# Altium footprint library Connector_PinSocket_2.54mm.PcbLib: 278 footprints (part 18 of 18)
Each footprint in its own frame and in the unit in brackets; x right, y up, seen from the top. Pads: shape width x height; smd on the part's side, far side on the other; paste and mask are expansions set on the pad; w line width, h text height; cw(c..) or ccw(c..) is an arc to the next point about the centre after c.
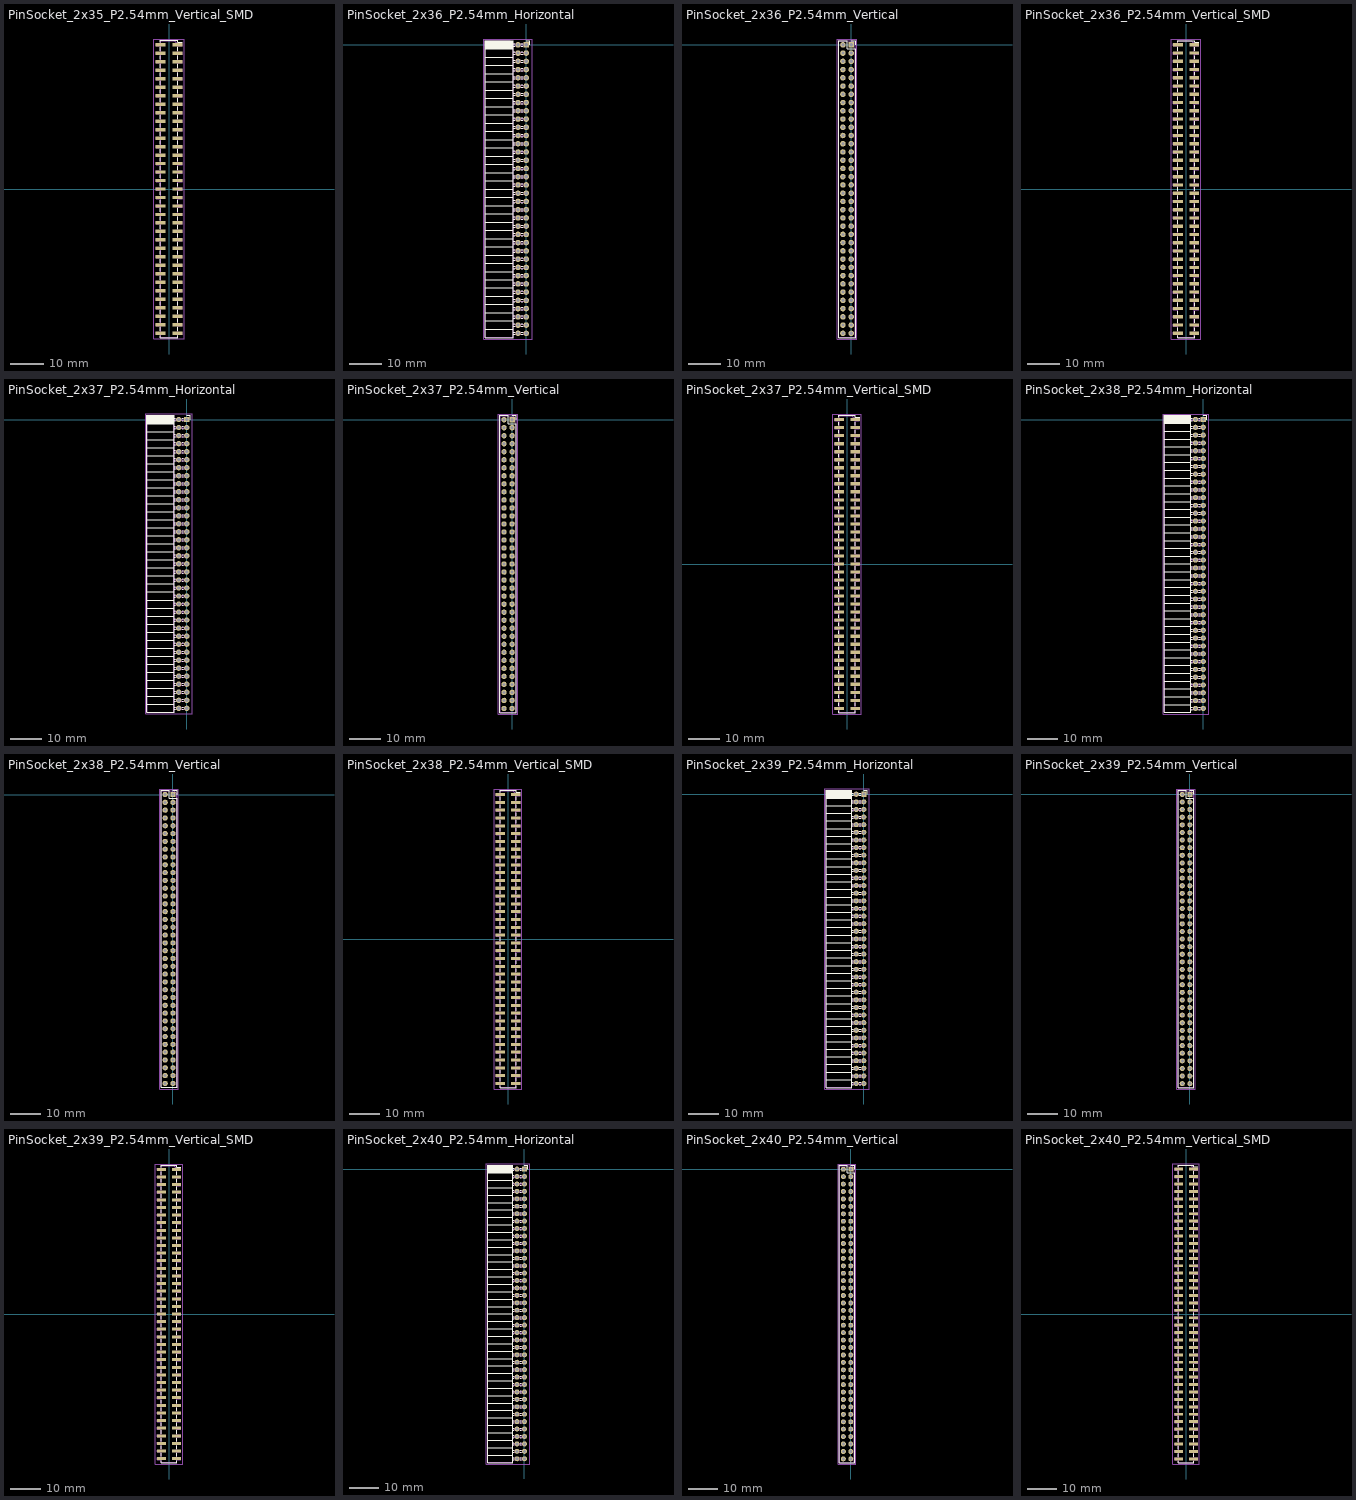
[diagram p17: the footprints below, top view; thin cyan lines are the x and y axes]

## PinSocket_2x35_P2.54mm_Vertical_SMD [mm]
pads (70):
  rect 3x1 smd: 1(2.52,43.18) 2(-2.52,43.18) 3(2.52,40.64) 4(-2.52,40.64) 5(2.52,38.1) 6(-2.52,38.1) 7(2.52,35.56) 8(-2.52,35.56) 9(2.52,33.02) 10(-2.52,33.02) 11(2.52,30.48) 12(-2.52,30.48) 13(2.52,27.94) 14(-2.52,27.94) 15(2.52,25.4) 16(-2.52,25.4) 17(2.52,22.86) 18(-2.52,22.86) 19(2.52,20.32) 20(-2.52,20.32) 21(2.52,17.78) 22(-2.52,17.78) 23(2.52,15.24) 24(-2.52,15.24) 25(2.52,12.7) 26(-2.52,12.7) 27(2.52,10.16) 28(-2.52,10.16) 29(2.52,7.62) 30(-2.52,7.62) 31(2.52,5.08) 32(-2.52,5.08) 33(2.52,2.54) 34(-2.52,2.54) 35(2.52,0) 36(-2.52,0) 37(2.52,-2.54) 38(-2.52,-2.54) 39(2.52,-5.08) 40(-2.52,-5.08) 41(2.52,-7.62) 42(-2.52,-7.62) 43(2.52,-10.16) 44(-2.52,-10.16) 45(2.52,-12.7) 46(-2.52,-12.7) 47(2.52,-15.24) 48(-2.52,-15.24) 49(2.52,-17.78) 50(-2.52,-17.78) 51(2.52,-20.32) 52(-2.52,-20.32) 53(2.52,-22.86) 54(-2.52,-22.86) 55(2.52,-25.4) 56(-2.52,-25.4) 57(2.52,-27.94) 58(-2.52,-27.94) 59(2.52,-30.48) 60(-2.52,-30.48) 61(2.52,-33.02) 62(-2.52,-33.02) 63(2.52,-35.56) 64(-2.52,-35.56) 65(2.52,-38.1) 66(-2.52,-38.1) 67(2.52,-40.64) 68(-2.52,-40.64) 69(2.52,-43.18) 70(-2.52,-43.18)
F.SilkS:
  lines w0.254: -2.6,-43.94 -2.6,-44.51 2.6,-44.51 2.6,-43.94 ; -2.6,-42.42 -2.6,-41.4 ; -2.6,-39.88 -2.6,-38.86 ; -2.6,-37.34 -2.6,-36.32 ; -2.6,-34.8 -2.6,-33.78 ; -2.6,-32.26 -2.6,-31.24 ; -2.6,-29.72 -2.6,-28.7 ; -2.6,-27.18 -2.6,-26.16 ; -2.6,-24.64 -2.6,-23.62 ; -2.6,-22.1 -2.6,-21.08 ; -2.6,-19.56 -2.6,-18.54 ; -2.6,-17.02 -2.6,-16 ; -2.6,-14.48 -2.6,-13.46 ; -2.6,-11.94 -2.6,-10.92 ; -2.6,-9.4 -2.6,-8.38 ; -2.6,-6.86 -2.6,-5.84 ; -2.6,-4.32 -2.6,-3.3 ; -2.6,-1.78 -2.6,-0.76 ; -2.6,0.76 -2.6,1.78 ; -2.6,3.3 -2.6,4.32 ; -2.6,5.84 -2.6,6.86 ; -2.6,8.38 -2.6,9.4 ; -2.6,10.92 -2.6,11.94 ; -2.6,13.46 -2.6,14.48 ; -2.6,16 -2.6,17.02 ; -2.6,18.54 -2.6,19.56 ; -2.6,21.08 -2.6,22.1 ; -2.6,23.62 -2.6,24.64 ; -2.6,26.16 -2.6,27.18 ; -2.6,28.7 -2.6,29.72 ; -2.6,31.24 -2.6,32.26 ; -2.6,33.78 -2.6,34.8 ; -2.6,36.32 -2.6,37.34 ; -2.6,38.86 -2.6,39.88 ; -2.6,41.4 -2.6,42.42 ; -2.6,43.94 -2.6,44.51 2.6,44.51 2.6,43.94 3.96,43.94 ; 2.6,-42.42 2.6,-41.4 ; 2.6,-39.88 2.6,-38.86 ; 2.6,-37.34 2.6,-36.32 ; 2.6,-34.8 2.6,-33.78 ; 2.6,-32.26 2.6,-31.24 ; 2.6,-29.72 2.6,-28.7 ; 2.6,-27.18 2.6,-26.16 ; 2.6,-24.64 2.6,-23.62 ; 2.6,-22.1 2.6,-21.08 ; 2.6,-19.56 2.6,-18.54 ; 2.6,-17.02 2.6,-16 ; 2.6,-14.48 2.6,-13.46 ; 2.6,-11.94 2.6,-10.92 ; 2.6,-9.4 2.6,-8.38 ; 2.6,-6.86 2.6,-5.84 ; 2.6,-4.32 2.6,-3.3 ; 2.6,-1.78 2.6,-0.76 ; 2.6,0.76 2.6,1.78 ; 2.6,3.3 2.6,4.32 ; 2.6,5.84 2.6,6.86 ; 2.6,8.38 2.6,9.4 ; 2.6,10.92 2.6,11.94 ; 2.6,13.46 2.6,14.48 ; 2.6,16 2.6,17.02 ; 2.6,18.54 2.6,19.56 ; 2.6,21.08 2.6,22.1 ; 2.6,23.62 2.6,24.64 ; 2.6,26.16 2.6,27.18 ; 2.6,28.7 2.6,29.72 ; 2.6,31.24 2.6,32.26 ; 2.6,33.78 2.6,34.8 ; 2.6,36.32 2.6,37.34 ; 2.6,38.86 2.6,39.88 ; 2.6,41.4 2.6,42.42
Top Assembly:
  drawing of 215 lines, arcs and shapes, not listed
  text "'.Designator'" at 0.84,-4.047 h1
Top Courtyard:
  lines w0.254: -4.55,-44.95 4.5,-44.95 4.5,44.95 -4.55,44.95 -4.55,-44.95
Top Designator:
  text ".Designator" at -7.643,-0.508 h1.52

## PinSocket_2x36_P2.54mm_Horizontal [mm]
pads (72):
  rect 1.7x1.7 hole 1: 1(0,0)
  round 1.7 hole 1: 2(-2.54,0) 3(0,-2.54) 4(-2.54,-2.54) 5(0,-5.08) 6(-2.54,-5.08) 7(0,-7.62) 8(-2.54,-7.62) 9(0,-10.16) 10(-2.54,-10.16) 11(0,-12.7) 12(-2.54,-12.7) 13(0,-15.24) 14(-2.54,-15.24) 15(0,-17.78) 16(-2.54,-17.78) 17(0,-20.32) 18(-2.54,-20.32) 19(0,-22.86) 20(-2.54,-22.86) 21(0,-25.4) 22(-2.54,-25.4) 23(0,-27.94) 24(-2.54,-27.94) 25(0,-30.48) 26(-2.54,-30.48) 27(0,-33.02) 28(-2.54,-33.02) 29(0,-35.56) 30(-2.54,-35.56) 31(0,-38.1) 32(-2.54,-38.1) 33(0,-40.64) 34(-2.54,-40.64) 35(0,-43.18) 36(-2.54,-43.18) 37(0,-45.72) 38(-2.54,-45.72) 39(0,-48.26) 40(-2.54,-48.26) 41(0,-50.8) 42(-2.54,-50.8) 43(0,-53.34) 44(-2.54,-53.34) 45(0,-55.88) 46(-2.54,-55.88) 47(0,-58.42) 48(-2.54,-58.42) 49(0,-60.96) 50(-2.54,-60.96) 51(0,-63.5) 52(-2.54,-63.5) 53(0,-66.04) 54(-2.54,-66.04) 55(0,-68.58) 56(-2.54,-68.58) 57(0,-71.12) 58(-2.54,-71.12) 59(0,-73.66) 60(-2.54,-73.66) 61(0,-76.2) 62(-2.54,-76.2) 63(0,-78.74) 64(-2.54,-78.74) 65(0,-81.28) 66(-2.54,-81.28) 67(0,-83.82) 68(-2.54,-83.82) 69(0,-86.36) 70(-2.54,-86.36) 71(0,-88.9) 72(-2.54,-88.9)
F.SilkS:
  drawing of 206 lines, arcs and shapes, not listed
Top Assembly:
  lines w0.254: -4.06,-89.2 0,-89.2 0,-88.6 -4.06,-88.6 ; -4.06,-86.66 0,-86.66 0,-86.06 -4.06,-86.06 ; -4.06,-84.12 0,-84.12 0,-83.52 -4.06,-83.52 ; -4.06,-81.58 0,-81.58 0,-80.98 -4.06,-80.98 ; -4.06,-79.04 0,-79.04 0,-78.44 -4.06,-78.44 ; -4.06,-76.5 0,-76.5 0,-75.9 -4.06,-75.9 ; -4.06,-73.96 0,-73.96 0,-73.36 -4.06,-73.36 ; -4.06,-71.42 0,-71.42 0,-70.82 -4.06,-70.82 ; -4.06,-68.88 0,-68.88 0,-68.28 -4.06,-68.28 ; -4.06,-66.34 0,-66.34 0,-65.74 -4.06,-65.74 ; -4.06,-63.8 0,-63.8 0,-63.2 -4.06,-63.2 ; -4.06,-61.26 0,-61.26 0,-60.66 -4.06,-60.66 ; -4.06,-58.72 0,-58.72 0,-58.12 -4.06,-58.12 ; -4.06,-56.18 0,-56.18 0,-55.58 -4.06,-55.58 ; -4.06,-53.64 0,-53.64 0,-53.04 -4.06,-53.04 ; -4.06,-51.1 0,-51.1 0,-50.5 -4.06,-50.5 ; -4.06,-48.56 0,-48.56 0,-47.96 -4.06,-47.96 ; -4.06,-46.02 0,-46.02 0,-45.42 -4.06,-45.42 ; -4.06,-43.48 0,-43.48 0,-42.88 -4.06,-42.88 ; -4.06,-40.94 0,-40.94 0,-40.34 -4.06,-40.34 ; -4.06,-38.4 0,-38.4 0,-37.8 -4.06,-37.8 ; -4.06,-35.86 0,-35.86 0,-35.26 -4.06,-35.26 ; -4.06,-33.32 0,-33.32 0,-32.72 -4.06,-32.72 ; -4.06,-30.78 0,-30.78 0,-30.18 -4.06,-30.18 ; -4.06,-28.24 0,-28.24 0,-27.64 -4.06,-27.64 ; -4.06,-25.7 0,-25.7 0,-25.1 -4.06,-25.1 ; -4.06,-23.16 0,-23.16 0,-22.56 -4.06,-22.56 ; -4.06,-20.62 0,-20.62 0,-20.02 -4.06,-20.02 ; -4.06,-18.08 0,-18.08 0,-17.48 -4.06,-17.48 ; -4.06,-15.54 0,-15.54 0,-14.94 -4.06,-14.94 ; -4.06,-13 0,-13 0,-12.4 -4.06,-12.4 ; -4.06,-10.46 0,-10.46 0,-9.86 -4.06,-9.86 ; -4.06,-7.92 0,-7.92 0,-7.32 -4.06,-7.32 ; -4.06,-5.38 0,-5.38 0,-4.78 -4.06,-4.78 ; -4.06,-2.84 0,-2.84 0,-2.24 -4.06,-2.24 ; -4.06,-0.3 0,-0.3 0,0.3 -4.06,0.3 ; -4.06,0.3 -4.06,-90.17 -12.57,-90.17 -12.57,1.27 -5.03,1.27 -4.06,0.3
  text "'.Designator'" at -7.475,-48.497 h1
Top Courtyard:
  lines w0.254: -13.05,-90.65 1.8,-90.65 1.8,1.8 -13.05,1.8 -13.05,-90.65
Top Designator:
  text ".Designator" at -13.243,-44.933 h1.52

## PinSocket_2x36_P2.54mm_Vertical [mm]
pads (72):
  rect 1.7x1.7 hole 1: 1(0,0)
  round 1.7 hole 1: 2(-2.54,0) 3(0,-2.54) 4(-2.54,-2.54) 5(0,-5.08) 6(-2.54,-5.08) 7(0,-7.62) 8(-2.54,-7.62) 9(0,-10.16) 10(-2.54,-10.16) 11(0,-12.7) 12(-2.54,-12.7) 13(0,-15.24) 14(-2.54,-15.24) 15(0,-17.78) 16(-2.54,-17.78) 17(0,-20.32) 18(-2.54,-20.32) 19(0,-22.86) 20(-2.54,-22.86) 21(0,-25.4) 22(-2.54,-25.4) 23(0,-27.94) 24(-2.54,-27.94) 25(0,-30.48) 26(-2.54,-30.48) 27(0,-33.02) 28(-2.54,-33.02) 29(0,-35.56) 30(-2.54,-35.56) 31(0,-38.1) 32(-2.54,-38.1) 33(0,-40.64) 34(-2.54,-40.64) 35(0,-43.18) 36(-2.54,-43.18) 37(0,-45.72) 38(-2.54,-45.72) 39(0,-48.26) 40(-2.54,-48.26) 41(0,-50.8) 42(-2.54,-50.8) 43(0,-53.34) 44(-2.54,-53.34) 45(0,-55.88) 46(-2.54,-55.88) 47(0,-58.42) 48(-2.54,-58.42) 49(0,-60.96) 50(-2.54,-60.96) 51(0,-63.5) 52(-2.54,-63.5) 53(0,-66.04) 54(-2.54,-66.04) 55(0,-68.58) 56(-2.54,-68.58) 57(0,-71.12) 58(-2.54,-71.12) 59(0,-73.66) 60(-2.54,-73.66) 61(0,-76.2) 62(-2.54,-76.2) 63(0,-78.74) 64(-2.54,-78.74) 65(0,-81.28) 66(-2.54,-81.28) 67(0,-83.82) 68(-2.54,-83.82) 69(0,-86.36) 70(-2.54,-86.36) 71(0,-88.9) 72(-2.54,-88.9)
F.SilkS:
  lines w0.254: 0,1.33 1.33,1.33 1.33,0 ; -3.87,-90.23 1.33,-90.23 1.33,-1.27 -1.27,-1.27 -1.27,1.33 -3.87,1.33 -3.87,-90.23
Top Assembly:
  lines w0.254: -3.81,-90.17 1.27,-90.17 1.27,0.27 0.27,1.27 -3.81,1.27 -3.81,-90.17
  text "'.Designator'" at -0.43,-48.497 h1
Top Courtyard:
  lines w0.254: -4.34,-90.65 1.76,-90.65 1.76,1.8 -4.34,1.8 -4.34,-90.65
Top Designator:
  text ".Designator" at -8.908,-44.933 h1.52

## PinSocket_2x36_P2.54mm_Vertical_SMD [mm]
pads (72):
  rect 3x1 smd: 1(2.52,44.45) 2(-2.52,44.45) 3(2.52,41.91) 4(-2.52,41.91) 5(2.52,39.37) 6(-2.52,39.37) 7(2.52,36.83) 8(-2.52,36.83) 9(2.52,34.29) 10(-2.52,34.29) 11(2.52,31.75) 12(-2.52,31.75) 13(2.52,29.21) 14(-2.52,29.21) 15(2.52,26.67) 16(-2.52,26.67) 17(2.52,24.13) 18(-2.52,24.13) 19(2.52,21.59) 20(-2.52,21.59) 21(2.52,19.05) 22(-2.52,19.05) 23(2.52,16.51) 24(-2.52,16.51) 25(2.52,13.97) 26(-2.52,13.97) 27(2.52,11.43) 28(-2.52,11.43) 29(2.52,8.89) 30(-2.52,8.89) 31(2.52,6.35) 32(-2.52,6.35) 33(2.52,3.81) 34(-2.52,3.81) 35(2.52,1.27) 36(-2.52,1.27) 37(2.52,-1.27) 38(-2.52,-1.27) 39(2.52,-3.81) 40(-2.52,-3.81) 41(2.52,-6.35) 42(-2.52,-6.35) 43(2.52,-8.89) 44(-2.52,-8.89) 45(2.52,-11.43) 46(-2.52,-11.43) 47(2.52,-13.97) 48(-2.52,-13.97) 49(2.52,-16.51) 50(-2.52,-16.51) 51(2.52,-19.05) 52(-2.52,-19.05) 53(2.52,-21.59) 54(-2.52,-21.59) 55(2.52,-24.13) 56(-2.52,-24.13) 57(2.52,-26.67) 58(-2.52,-26.67) 59(2.52,-29.21) 60(-2.52,-29.21) 61(2.52,-31.75) 62(-2.52,-31.75) 63(2.52,-34.29) 64(-2.52,-34.29) 65(2.52,-36.83) 66(-2.52,-36.83) 67(2.52,-39.37) 68(-2.52,-39.37) 69(2.52,-41.91) 70(-2.52,-41.91) 71(2.52,-44.45) 72(-2.52,-44.45)
F.SilkS:
  lines w0.254: -2.6,-45.21 -2.6,-45.78 2.6,-45.78 2.6,-45.21 ; -2.6,-43.69 -2.6,-42.67 ; -2.6,-41.15 -2.6,-40.13 ; -2.6,-38.61 -2.6,-37.59 ; -2.6,-36.07 -2.6,-35.05 ; -2.6,-33.53 -2.6,-32.51 ; -2.6,-30.99 -2.6,-29.97 ; -2.6,-28.45 -2.6,-27.43 ; -2.6,-25.91 -2.6,-24.89 ; -2.6,-23.37 -2.6,-22.35 ; -2.6,-20.83 -2.6,-19.81 ; -2.6,-18.29 -2.6,-17.27 ; -2.6,-15.75 -2.6,-14.73 ; -2.6,-13.21 -2.6,-12.19 ; -2.6,-10.67 -2.6,-9.65 ; -2.6,-8.13 -2.6,-7.11 ; -2.6,-5.59 -2.6,-4.57 ; -2.6,-3.05 -2.6,-2.03 ; -2.6,-0.51 -2.6,0.51 ; -2.6,2.03 -2.6,3.05 ; -2.6,4.57 -2.6,5.59 ; -2.6,7.11 -2.6,8.13 ; -2.6,9.65 -2.6,10.67 ; -2.6,12.19 -2.6,13.21 ; -2.6,14.73 -2.6,15.75 ; -2.6,17.27 -2.6,18.29 ; -2.6,19.81 -2.6,20.83 ; -2.6,22.35 -2.6,23.37 ; -2.6,24.89 -2.6,25.91 ; -2.6,27.43 -2.6,28.45 ; -2.6,29.97 -2.6,30.99 ; -2.6,32.51 -2.6,33.53 ; -2.6,35.05 -2.6,36.07 ; -2.6,37.59 -2.6,38.61 ; -2.6,40.13 -2.6,41.15 ; -2.6,42.67 -2.6,43.69 ; -2.6,45.21 -2.6,45.78 2.6,45.78 2.6,45.21 3.96,45.21 ; 2.6,-43.69 2.6,-42.67 ; 2.6,-41.15 2.6,-40.13 ; 2.6,-38.61 2.6,-37.59 ; 2.6,-36.07 2.6,-35.05 ; 2.6,-33.53 2.6,-32.51 ; 2.6,-30.99 2.6,-29.97 ; 2.6,-28.45 2.6,-27.43 ; 2.6,-25.91 2.6,-24.89 ; 2.6,-23.37 2.6,-22.35 ; 2.6,-20.83 2.6,-19.81 ; 2.6,-18.29 2.6,-17.27 ; 2.6,-15.75 2.6,-14.73 ; 2.6,-13.21 2.6,-12.19 ; 2.6,-10.67 2.6,-9.65 ; 2.6,-8.13 2.6,-7.11 ; 2.6,-5.59 2.6,-4.57 ; 2.6,-3.05 2.6,-2.03 ; 2.6,-0.51 2.6,0.51 ; 2.6,2.03 2.6,3.05 ; 2.6,4.57 2.6,5.59 ; 2.6,7.11 2.6,8.13 ; 2.6,9.65 2.6,10.67 ; 2.6,12.19 2.6,13.21 ; 2.6,14.73 2.6,15.75 ; 2.6,17.27 2.6,18.29 ; 2.6,19.81 2.6,20.83 ; 2.6,22.35 2.6,23.37 ; 2.6,24.89 2.6,25.91 ; 2.6,27.43 2.6,28.45 ; 2.6,29.97 2.6,30.99 ; 2.6,32.51 2.6,33.53 ; 2.6,35.05 2.6,36.07 ; 2.6,37.59 2.6,38.61 ; 2.6,40.13 2.6,41.15 ; 2.6,42.67 2.6,43.69
Top Assembly:
  drawing of 221 lines, arcs and shapes, not listed
  text "'.Designator'" at 0.84,-4.047 h1
Top Courtyard:
  lines w0.254: -4.55,-46.2 4.5,-46.2 4.5,46.25 -4.55,46.25 -4.55,-46.2
Top Designator:
  text ".Designator" at -7.643,-0.483 h1.52

## PinSocket_2x37_P2.54mm_Horizontal [mm]
pads (74):
  rect 1.7x1.7 hole 1: 1(0,0)
  round 1.7 hole 1: 2(-2.54,0) 3(0,-2.54) 4(-2.54,-2.54) 5(0,-5.08) 6(-2.54,-5.08) 7(0,-7.62) 8(-2.54,-7.62) 9(0,-10.16) 10(-2.54,-10.16) 11(0,-12.7) 12(-2.54,-12.7) 13(0,-15.24) 14(-2.54,-15.24) 15(0,-17.78) 16(-2.54,-17.78) 17(0,-20.32) 18(-2.54,-20.32) 19(0,-22.86) 20(-2.54,-22.86) 21(0,-25.4) 22(-2.54,-25.4) 23(0,-27.94) 24(-2.54,-27.94) 25(0,-30.48) 26(-2.54,-30.48) 27(0,-33.02) 28(-2.54,-33.02) 29(0,-35.56) 30(-2.54,-35.56) 31(0,-38.1) 32(-2.54,-38.1) 33(0,-40.64) 34(-2.54,-40.64) 35(0,-43.18) 36(-2.54,-43.18) 37(0,-45.72) 38(-2.54,-45.72) 39(0,-48.26) 40(-2.54,-48.26) 41(0,-50.8) 42(-2.54,-50.8) 43(0,-53.34) 44(-2.54,-53.34) 45(0,-55.88) 46(-2.54,-55.88) 47(0,-58.42) 48(-2.54,-58.42) 49(0,-60.96) 50(-2.54,-60.96) 51(0,-63.5) 52(-2.54,-63.5) 53(0,-66.04) 54(-2.54,-66.04) 55(0,-68.58) 56(-2.54,-68.58) 57(0,-71.12) 58(-2.54,-71.12) 59(0,-73.66) 60(-2.54,-73.66) 61(0,-76.2) 62(-2.54,-76.2) 63(0,-78.74) 64(-2.54,-78.74) 65(0,-81.28) 66(-2.54,-81.28) 67(0,-83.82) 68(-2.54,-83.82) 69(0,-86.36) 70(-2.54,-86.36) 71(0,-88.9) 72(-2.54,-88.9) 73(0,-91.44) 74(-2.54,-91.44)
F.SilkS:
  drawing of 211 lines, arcs and shapes, not listed
Top Assembly:
  lines w0.254: -4.06,-91.74 0,-91.74 0,-91.14 -4.06,-91.14 ; -4.06,-89.2 0,-89.2 0,-88.6 -4.06,-88.6 ; -4.06,-86.66 0,-86.66 0,-86.06 -4.06,-86.06 ; -4.06,-84.12 0,-84.12 0,-83.52 -4.06,-83.52 ; -4.06,-81.58 0,-81.58 0,-80.98 -4.06,-80.98 ; -4.06,-79.04 0,-79.04 0,-78.44 -4.06,-78.44 ; -4.06,-76.5 0,-76.5 0,-75.9 -4.06,-75.9 ; -4.06,-73.96 0,-73.96 0,-73.36 -4.06,-73.36 ; -4.06,-71.42 0,-71.42 0,-70.82 -4.06,-70.82 ; -4.06,-68.88 0,-68.88 0,-68.28 -4.06,-68.28 ; -4.06,-66.34 0,-66.34 0,-65.74 -4.06,-65.74 ; -4.06,-63.8 0,-63.8 0,-63.2 -4.06,-63.2 ; -4.06,-61.26 0,-61.26 0,-60.66 -4.06,-60.66 ; -4.06,-58.72 0,-58.72 0,-58.12 -4.06,-58.12 ; -4.06,-56.18 0,-56.18 0,-55.58 -4.06,-55.58 ; -4.06,-53.64 0,-53.64 0,-53.04 -4.06,-53.04 ; -4.06,-51.1 0,-51.1 0,-50.5 -4.06,-50.5 ; -4.06,-48.56 0,-48.56 0,-47.96 -4.06,-47.96 ; -4.06,-46.02 0,-46.02 0,-45.42 -4.06,-45.42 ; -4.06,-43.48 0,-43.48 0,-42.88 -4.06,-42.88 ; -4.06,-40.94 0,-40.94 0,-40.34 -4.06,-40.34 ; -4.06,-38.4 0,-38.4 0,-37.8 -4.06,-37.8 ; -4.06,-35.86 0,-35.86 0,-35.26 -4.06,-35.26 ; -4.06,-33.32 0,-33.32 0,-32.72 -4.06,-32.72 ; -4.06,-30.78 0,-30.78 0,-30.18 -4.06,-30.18 ; -4.06,-28.24 0,-28.24 0,-27.64 -4.06,-27.64 ; -4.06,-25.7 0,-25.7 0,-25.1 -4.06,-25.1 ; -4.06,-23.16 0,-23.16 0,-22.56 -4.06,-22.56 ; -4.06,-20.62 0,-20.62 0,-20.02 -4.06,-20.02 ; -4.06,-18.08 0,-18.08 0,-17.48 -4.06,-17.48 ; -4.06,-15.54 0,-15.54 0,-14.94 -4.06,-14.94 ; -4.06,-13 0,-13 0,-12.4 -4.06,-12.4 ; -4.06,-10.46 0,-10.46 0,-9.86 -4.06,-9.86 ; -4.06,-7.92 0,-7.92 0,-7.32 -4.06,-7.32 ; -4.06,-5.38 0,-5.38 0,-4.78 -4.06,-4.78 ; -4.06,-2.84 0,-2.84 0,-2.24 -4.06,-2.24 ; -4.06,-0.3 0,-0.3 0,0.3 -4.06,0.3 ; -4.06,0.3 -4.06,-92.71 -12.57,-92.71 -12.57,1.27 -5.03,1.27 -4.06,0.3
  text "'.Designator'" at -7.475,-49.767 h1
Top Courtyard:
  lines w0.254: -13.05,-93.25 1.8,-93.25 1.8,1.75 -13.05,1.75 -13.05,-93.25
Top Designator:
  text ".Designator" at -13.243,-46.258 h1.52

## PinSocket_2x37_P2.54mm_Vertical [mm]
pads (74):
  rect 1.7x1.7 hole 1: 1(0,0)
  round 1.7 hole 1: 2(-2.54,0) 3(0,-2.54) 4(-2.54,-2.54) 5(0,-5.08) 6(-2.54,-5.08) 7(0,-7.62) 8(-2.54,-7.62) 9(0,-10.16) 10(-2.54,-10.16) 11(0,-12.7) 12(-2.54,-12.7) 13(0,-15.24) 14(-2.54,-15.24) 15(0,-17.78) 16(-2.54,-17.78) 17(0,-20.32) 18(-2.54,-20.32) 19(0,-22.86) 20(-2.54,-22.86) 21(0,-25.4) 22(-2.54,-25.4) 23(0,-27.94) 24(-2.54,-27.94) 25(0,-30.48) 26(-2.54,-30.48) 27(0,-33.02) 28(-2.54,-33.02) 29(0,-35.56) 30(-2.54,-35.56) 31(0,-38.1) 32(-2.54,-38.1) 33(0,-40.64) 34(-2.54,-40.64) 35(0,-43.18) 36(-2.54,-43.18) 37(0,-45.72) 38(-2.54,-45.72) 39(0,-48.26) 40(-2.54,-48.26) 41(0,-50.8) 42(-2.54,-50.8) 43(0,-53.34) 44(-2.54,-53.34) 45(0,-55.88) 46(-2.54,-55.88) 47(0,-58.42) 48(-2.54,-58.42) 49(0,-60.96) 50(-2.54,-60.96) 51(0,-63.5) 52(-2.54,-63.5) 53(0,-66.04) 54(-2.54,-66.04) 55(0,-68.58) 56(-2.54,-68.58) 57(0,-71.12) 58(-2.54,-71.12) 59(0,-73.66) 60(-2.54,-73.66) 61(0,-76.2) 62(-2.54,-76.2) 63(0,-78.74) 64(-2.54,-78.74) 65(0,-81.28) 66(-2.54,-81.28) 67(0,-83.82) 68(-2.54,-83.82) 69(0,-86.36) 70(-2.54,-86.36) 71(0,-88.9) 72(-2.54,-88.9) 73(0,-91.44) 74(-2.54,-91.44)
F.SilkS:
  lines w0.254: 0,1.33 1.33,1.33 1.33,0 ; -3.87,-92.77 1.33,-92.77 1.33,-1.27 -1.27,-1.27 -1.27,1.33 -3.87,1.33 -3.87,-92.77
Top Assembly:
  lines w0.254: -3.81,-92.71 1.27,-92.71 1.27,0.27 0.27,1.27 -3.81,1.27 -3.81,-92.71
  text "'.Designator'" at -0.43,-49.767 h1
Top Courtyard:
  lines w0.254: -4.34,-93.2 1.76,-93.2 1.76,1.8 -4.34,1.8 -4.34,-93.2
Top Designator:
  text ".Designator" at -8.908,-46.208 h1.52

## PinSocket_2x37_P2.54mm_Vertical_SMD [mm]
pads (74):
  rect 3x1 smd: 1(2.52,45.72) 2(-2.52,45.72) 3(2.52,43.18) 4(-2.52,43.18) 5(2.52,40.64) 6(-2.52,40.64) 7(2.52,38.1) 8(-2.52,38.1) 9(2.52,35.56) 10(-2.52,35.56) 11(2.52,33.02) 12(-2.52,33.02) 13(2.52,30.48) 14(-2.52,30.48) 15(2.52,27.94) 16(-2.52,27.94) 17(2.52,25.4) 18(-2.52,25.4) 19(2.52,22.86) 20(-2.52,22.86) 21(2.52,20.32) 22(-2.52,20.32) 23(2.52,17.78) 24(-2.52,17.78) 25(2.52,15.24) 26(-2.52,15.24) 27(2.52,12.7) 28(-2.52,12.7) 29(2.52,10.16) 30(-2.52,10.16) 31(2.52,7.62) 32(-2.52,7.62) 33(2.52,5.08) 34(-2.52,5.08) 35(2.52,2.54) 36(-2.52,2.54) 37(2.52,0) 38(-2.52,0) 39(2.52,-2.54) 40(-2.52,-2.54) 41(2.52,-5.08) 42(-2.52,-5.08) 43(2.52,-7.62) 44(-2.52,-7.62) 45(2.52,-10.16) 46(-2.52,-10.16) 47(2.52,-12.7) 48(-2.52,-12.7) 49(2.52,-15.24) 50(-2.52,-15.24) 51(2.52,-17.78) 52(-2.52,-17.78) 53(2.52,-20.32) 54(-2.52,-20.32) 55(2.52,-22.86) 56(-2.52,-22.86) 57(2.52,-25.4) 58(-2.52,-25.4) 59(2.52,-27.94) 60(-2.52,-27.94) 61(2.52,-30.48) 62(-2.52,-30.48) 63(2.52,-33.02) 64(-2.52,-33.02) 65(2.52,-35.56) 66(-2.52,-35.56) 67(2.52,-38.1) 68(-2.52,-38.1) 69(2.52,-40.64) 70(-2.52,-40.64) 71(2.52,-43.18) 72(-2.52,-43.18) 73(2.52,-45.72) 74(-2.52,-45.72)
F.SilkS:
  lines w0.254: -2.6,-46.48 -2.6,-47.05 2.6,-47.05 2.6,-46.48 ; -2.6,-44.96 -2.6,-43.94 ; -2.6,-42.42 -2.6,-41.4 ; -2.6,-39.88 -2.6,-38.86 ; -2.6,-37.34 -2.6,-36.32 ; -2.6,-34.8 -2.6,-33.78 ; -2.6,-32.26 -2.6,-31.24 ; -2.6,-29.72 -2.6,-28.7 ; -2.6,-27.18 -2.6,-26.16 ; -2.6,-24.64 -2.6,-23.62 ; -2.6,-22.1 -2.6,-21.08 ; -2.6,-19.56 -2.6,-18.54 ; -2.6,-17.02 -2.6,-16 ; -2.6,-14.48 -2.6,-13.46 ; -2.6,-11.94 -2.6,-10.92 ; -2.6,-9.4 -2.6,-8.38 ; -2.6,-6.86 -2.6,-5.84 ; -2.6,-4.32 -2.6,-3.3 ; -2.6,-1.78 -2.6,-0.76 ; -2.6,0.76 -2.6,1.78 ; -2.6,3.3 -2.6,4.32 ; -2.6,5.84 -2.6,6.86 ; -2.6,8.38 -2.6,9.4 ; -2.6,10.92 -2.6,11.94 ; -2.6,13.46 -2.6,14.48 ; -2.6,16 -2.6,17.02 ; -2.6,18.54 -2.6,19.56 ; -2.6,21.08 -2.6,22.1 ; -2.6,23.62 -2.6,24.64 ; -2.6,26.16 -2.6,27.18 ; -2.6,28.7 -2.6,29.72 ; -2.6,31.24 -2.6,32.26 ; -2.6,33.78 -2.6,34.8 ; -2.6,36.32 -2.6,37.34 ; -2.6,38.86 -2.6,39.88 ; -2.6,41.4 -2.6,42.42 ; -2.6,43.94 -2.6,44.96 ; -2.6,46.48 -2.6,47.05 2.6,47.05 2.6,46.48 3.96,46.48 ; 2.6,-44.96 2.6,-43.94 ; 2.6,-42.42 2.6,-41.4 ; 2.6,-39.88 2.6,-38.86 ; 2.6,-37.34 2.6,-36.32 ; 2.6,-34.8 2.6,-33.78 ; 2.6,-32.26 2.6,-31.24 ; 2.6,-29.72 2.6,-28.7 ; 2.6,-27.18 2.6,-26.16 ; 2.6,-24.64 2.6,-23.62 ; 2.6,-22.1 2.6,-21.08 ; 2.6,-19.56 2.6,-18.54 ; 2.6,-17.02 2.6,-16 ; 2.6,-14.48 2.6,-13.46 ; 2.6,-11.94 2.6,-10.92 ; 2.6,-9.4 2.6,-8.38 ; 2.6,-6.86 2.6,-5.84 ; 2.6,-4.32 2.6,-3.3 ; 2.6,-1.78 2.6,-0.76 ; 2.6,0.76 2.6,1.78 ; 2.6,3.3 2.6,4.32 ; 2.6,5.84 2.6,6.86 ; 2.6,8.38 2.6,9.4 ; 2.6,10.92 2.6,11.94 ; 2.6,13.46 2.6,14.48 ; 2.6,16 2.6,17.02 ; 2.6,18.54 2.6,19.56 ; 2.6,21.08 2.6,22.1 ; 2.6,23.62 2.6,24.64 ; 2.6,26.16 2.6,27.18 ; 2.6,28.7 2.6,29.72 ; 2.6,31.24 2.6,32.26 ; 2.6,33.78 2.6,34.8 ; 2.6,36.32 2.6,37.34 ; 2.6,38.86 2.6,39.88 ; 2.6,41.4 2.6,42.42 ; 2.6,43.94 2.6,44.96
Top Assembly:
  drawing of 227 lines, arcs and shapes, not listed
  text "'.Designator'" at 0.84,-4.047 h1
Top Courtyard:
  lines w0.254: -4.55,-47.5 4.5,-47.5 4.5,47.5 -4.55,47.5 -4.55,-47.5
Top Designator:
  text ".Designator" at -7.643,-0.508 h1.52

## PinSocket_2x38_P2.54mm_Horizontal [mm]
pads (76):
  rect 1.7x1.7 hole 1: 1(0,0)
  round 1.7 hole 1: 2(-2.54,0) 3(0,-2.54) 4(-2.54,-2.54) 5(0,-5.08) 6(-2.54,-5.08) 7(0,-7.62) 8(-2.54,-7.62) 9(0,-10.16) 10(-2.54,-10.16) 11(0,-12.7) 12(-2.54,-12.7) 13(0,-15.24) 14(-2.54,-15.24) 15(0,-17.78) 16(-2.54,-17.78) 17(0,-20.32) 18(-2.54,-20.32) 19(0,-22.86) 20(-2.54,-22.86) 21(0,-25.4) 22(-2.54,-25.4) 23(0,-27.94) 24(-2.54,-27.94) 25(0,-30.48) 26(-2.54,-30.48) 27(0,-33.02) 28(-2.54,-33.02) 29(0,-35.56) 30(-2.54,-35.56) 31(0,-38.1) 32(-2.54,-38.1) 33(0,-40.64) 34(-2.54,-40.64) 35(0,-43.18) 36(-2.54,-43.18) 37(0,-45.72) 38(-2.54,-45.72) 39(0,-48.26) 40(-2.54,-48.26) 41(0,-50.8) 42(-2.54,-50.8) 43(0,-53.34) 44(-2.54,-53.34) 45(0,-55.88) 46(-2.54,-55.88) 47(0,-58.42) 48(-2.54,-58.42) 49(0,-60.96) 50(-2.54,-60.96) 51(0,-63.5) 52(-2.54,-63.5) 53(0,-66.04) 54(-2.54,-66.04) 55(0,-68.58) 56(-2.54,-68.58) 57(0,-71.12) 58(-2.54,-71.12) 59(0,-73.66) 60(-2.54,-73.66) 61(0,-76.2) 62(-2.54,-76.2) 63(0,-78.74) 64(-2.54,-78.74) 65(0,-81.28) 66(-2.54,-81.28) 67(0,-83.82) 68(-2.54,-83.82) 69(0,-86.36) 70(-2.54,-86.36) 71(0,-88.9) 72(-2.54,-88.9) 73(0,-91.44) 74(-2.54,-91.44) 75(0,-93.98) 76(-2.54,-93.98)
F.SilkS:
  drawing of 216 lines, arcs and shapes, not listed
Top Assembly:
  lines w0.254: -4.06,-94.28 0,-94.28 0,-93.68 -4.06,-93.68 ; -4.06,-91.74 0,-91.74 0,-91.14 -4.06,-91.14 ; -4.06,-89.2 0,-89.2 0,-88.6 -4.06,-88.6 ; -4.06,-86.66 0,-86.66 0,-86.06 -4.06,-86.06 ; -4.06,-84.12 0,-84.12 0,-83.52 -4.06,-83.52 ; -4.06,-81.58 0,-81.58 0,-80.98 -4.06,-80.98 ; -4.06,-79.04 0,-79.04 0,-78.44 -4.06,-78.44 ; -4.06,-76.5 0,-76.5 0,-75.9 -4.06,-75.9 ; -4.06,-73.96 0,-73.96 0,-73.36 -4.06,-73.36 ; -4.06,-71.42 0,-71.42 0,-70.82 -4.06,-70.82 ; -4.06,-68.88 0,-68.88 0,-68.28 -4.06,-68.28 ; -4.06,-66.34 0,-66.34 0,-65.74 -4.06,-65.74 ; -4.06,-63.8 0,-63.8 0,-63.2 -4.06,-63.2 ; -4.06,-61.26 0,-61.26 0,-60.66 -4.06,-60.66 ; -4.06,-58.72 0,-58.72 0,-58.12 -4.06,-58.12 ; -4.06,-56.18 0,-56.18 0,-55.58 -4.06,-55.58 ; -4.06,-53.64 0,-53.64 0,-53.04 -4.06,-53.04 ; -4.06,-51.1 0,-51.1 0,-50.5 -4.06,-50.5 ; -4.06,-48.56 0,-48.56 0,-47.96 -4.06,-47.96 ; -4.06,-46.02 0,-46.02 0,-45.42 -4.06,-45.42 ; -4.06,-43.48 0,-43.48 0,-42.88 -4.06,-42.88 ; -4.06,-40.94 0,-40.94 0,-40.34 -4.06,-40.34 ; -4.06,-38.4 0,-38.4 0,-37.8 -4.06,-37.8 ; -4.06,-35.86 0,-35.86 0,-35.26 -4.06,-35.26 ; -4.06,-33.32 0,-33.32 0,-32.72 -4.06,-32.72 ; -4.06,-30.78 0,-30.78 0,-30.18 -4.06,-30.18 ; -4.06,-28.24 0,-28.24 0,-27.64 -4.06,-27.64 ; -4.06,-25.7 0,-25.7 0,-25.1 -4.06,-25.1 ; -4.06,-23.16 0,-23.16 0,-22.56 -4.06,-22.56 ; -4.06,-20.62 0,-20.62 0,-20.02 -4.06,-20.02 ; -4.06,-18.08 0,-18.08 0,-17.48 -4.06,-17.48 ; -4.06,-15.54 0,-15.54 0,-14.94 -4.06,-14.94 ; -4.06,-13 0,-13 0,-12.4 -4.06,-12.4 ; -4.06,-10.46 0,-10.46 0,-9.86 -4.06,-9.86 ; -4.06,-7.92 0,-7.92 0,-7.32 -4.06,-7.32 ; -4.06,-5.38 0,-5.38 0,-4.78 -4.06,-4.78 ; -4.06,-2.84 0,-2.84 0,-2.24 -4.06,-2.24 ; -4.06,-0.3 0,-0.3 0,0.3 -4.06,0.3 ; -4.06,0.3 -4.06,-95.25 -12.57,-95.25 -12.57,1.27 -5.03,1.27 -4.06,0.3
  text "'.Designator'" at -7.475,-51.037 h1
Top Courtyard:
  lines w0.254: -13.05,-95.8 1.8,-95.8 1.8,1.8 -13.05,1.8 -13.05,-95.8
Top Designator:
  text ".Designator" at -13.243,-47.508 h1.52

## PinSocket_2x38_P2.54mm_Vertical [mm]
pads (76):
  rect 1.7x1.7 hole 1: 1(0,0)
  round 1.7 hole 1: 2(-2.54,0) 3(0,-2.54) 4(-2.54,-2.54) 5(0,-5.08) 6(-2.54,-5.08) 7(0,-7.62) 8(-2.54,-7.62) 9(0,-10.16) 10(-2.54,-10.16) 11(0,-12.7) 12(-2.54,-12.7) 13(0,-15.24) 14(-2.54,-15.24) 15(0,-17.78) 16(-2.54,-17.78) 17(0,-20.32) 18(-2.54,-20.32) 19(0,-22.86) 20(-2.54,-22.86) 21(0,-25.4) 22(-2.54,-25.4) 23(0,-27.94) 24(-2.54,-27.94) 25(0,-30.48) 26(-2.54,-30.48) 27(0,-33.02) 28(-2.54,-33.02) 29(0,-35.56) 30(-2.54,-35.56) 31(0,-38.1) 32(-2.54,-38.1) 33(0,-40.64) 34(-2.54,-40.64) 35(0,-43.18) 36(-2.54,-43.18) 37(0,-45.72) 38(-2.54,-45.72) 39(0,-48.26) 40(-2.54,-48.26) 41(0,-50.8) 42(-2.54,-50.8) 43(0,-53.34) 44(-2.54,-53.34) 45(0,-55.88) 46(-2.54,-55.88) 47(0,-58.42) 48(-2.54,-58.42) 49(0,-60.96) 50(-2.54,-60.96) 51(0,-63.5) 52(-2.54,-63.5) 53(0,-66.04) 54(-2.54,-66.04) 55(0,-68.58) 56(-2.54,-68.58) 57(0,-71.12) 58(-2.54,-71.12) 59(0,-73.66) 60(-2.54,-73.66) 61(0,-76.2) 62(-2.54,-76.2) 63(0,-78.74) 64(-2.54,-78.74) 65(0,-81.28) 66(-2.54,-81.28) 67(0,-83.82) 68(-2.54,-83.82) 69(0,-86.36) 70(-2.54,-86.36) 71(0,-88.9) 72(-2.54,-88.9) 73(0,-91.44) 74(-2.54,-91.44) 75(0,-93.98) 76(-2.54,-93.98)
F.SilkS:
  lines w0.254: 0,1.33 1.33,1.33 1.33,0 ; -3.87,-95.31 1.33,-95.31 1.33,-1.27 -1.27,-1.27 -1.27,1.33 -3.87,1.33 -3.87,-95.31
Top Assembly:
  lines w0.254: -3.81,-95.25 1.27,-95.25 1.27,0.27 0.27,1.27 -3.81,1.27 -3.81,-95.25
  text "'.Designator'" at -0.43,-51.037 h1
Top Courtyard:
  lines w0.254: -4.34,-95.8 1.76,-95.8 1.76,1.8 -4.34,1.8 -4.34,-95.8
Top Designator:
  text ".Designator" at -8.908,-47.508 h1.52

## PinSocket_2x38_P2.54mm_Vertical_SMD [mm]
pads (76):
  rect 3x1 smd: 1(2.52,46.99) 2(-2.52,46.99) 3(2.52,44.45) 4(-2.52,44.45) 5(2.52,41.91) 6(-2.52,41.91) 7(2.52,39.37) 8(-2.52,39.37) 9(2.52,36.83) 10(-2.52,36.83) 11(2.52,34.29) 12(-2.52,34.29) 13(2.52,31.75) 14(-2.52,31.75) 15(2.52,29.21) 16(-2.52,29.21) 17(2.52,26.67) 18(-2.52,26.67) 19(2.52,24.13) 20(-2.52,24.13) 21(2.52,21.59) 22(-2.52,21.59) 23(2.52,19.05) 24(-2.52,19.05) 25(2.52,16.51) 26(-2.52,16.51) 27(2.52,13.97) 28(-2.52,13.97) 29(2.52,11.43) 30(-2.52,11.43) 31(2.52,8.89) 32(-2.52,8.89) 33(2.52,6.35) 34(-2.52,6.35) 35(2.52,3.81) 36(-2.52,3.81) 37(2.52,1.27) 38(-2.52,1.27) 39(2.52,-1.27) 40(-2.52,-1.27) 41(2.52,-3.81) 42(-2.52,-3.81) 43(2.52,-6.35) 44(-2.52,-6.35) 45(2.52,-8.89) 46(-2.52,-8.89) 47(2.52,-11.43) 48(-2.52,-11.43) 49(2.52,-13.97) 50(-2.52,-13.97) 51(2.52,-16.51) 52(-2.52,-16.51) 53(2.52,-19.05) 54(-2.52,-19.05) 55(2.52,-21.59) 56(-2.52,-21.59) 57(2.52,-24.13) 58(-2.52,-24.13) 59(2.52,-26.67) 60(-2.52,-26.67) 61(2.52,-29.21) 62(-2.52,-29.21) 63(2.52,-31.75) 64(-2.52,-31.75) 65(2.52,-34.29) 66(-2.52,-34.29) 67(2.52,-36.83) 68(-2.52,-36.83) 69(2.52,-39.37) 70(-2.52,-39.37) 71(2.52,-41.91) 72(-2.52,-41.91) 73(2.52,-44.45) 74(-2.52,-44.45) 75(2.52,-46.99) 76(-2.52,-46.99)
F.SilkS:
  lines w0.254: -2.6,-47.75 -2.6,-48.32 2.6,-48.32 2.6,-47.75 ; -2.6,-46.23 -2.6,-45.21 ; -2.6,-43.69 -2.6,-42.67 ; -2.6,-41.15 -2.6,-40.13 ; -2.6,-38.61 -2.6,-37.59 ; -2.6,-36.07 -2.6,-35.05 ; -2.6,-33.53 -2.6,-32.51 ; -2.6,-30.99 -2.6,-29.97 ; -2.6,-28.45 -2.6,-27.43 ; -2.6,-25.91 -2.6,-24.89 ; -2.6,-23.37 -2.6,-22.35 ; -2.6,-20.83 -2.6,-19.81 ; -2.6,-18.29 -2.6,-17.27 ; -2.6,-15.75 -2.6,-14.73 ; -2.6,-13.21 -2.6,-12.19 ; -2.6,-10.67 -2.6,-9.65 ; -2.6,-8.13 -2.6,-7.11 ; -2.6,-5.59 -2.6,-4.57 ; -2.6,-3.05 -2.6,-2.03 ; -2.6,-0.51 -2.6,0.51 ; -2.6,2.03 -2.6,3.05 ; -2.6,4.57 -2.6,5.59 ; -2.6,7.11 -2.6,8.13 ; -2.6,9.65 -2.6,10.67 ; -2.6,12.19 -2.6,13.21 ; -2.6,14.73 -2.6,15.75 ; -2.6,17.27 -2.6,18.29 ; -2.6,19.81 -2.6,20.83 ; -2.6,22.35 -2.6,23.37 ; -2.6,24.89 -2.6,25.91 ; -2.6,27.43 -2.6,28.45 ; -2.6,29.97 -2.6,30.99 ; -2.6,32.51 -2.6,33.53 ; -2.6,35.05 -2.6,36.07 ; -2.6,37.59 -2.6,38.61 ; -2.6,40.13 -2.6,41.15 ; -2.6,42.67 -2.6,43.69 ; -2.6,45.21 -2.6,46.23 ; -2.6,47.75 -2.6,48.32 2.6,48.32 2.6,47.75 3.96,47.75 ; 2.6,-46.23 2.6,-45.21 ; 2.6,-43.69 2.6,-42.67 ; 2.6,-41.15 2.6,-40.13 ; 2.6,-38.61 2.6,-37.59 ; 2.6,-36.07 2.6,-35.05 ; 2.6,-33.53 2.6,-32.51 ; 2.6,-30.99 2.6,-29.97 ; 2.6,-28.45 2.6,-27.43 ; 2.6,-25.91 2.6,-24.89 ; 2.6,-23.37 2.6,-22.35 ; 2.6,-20.83 2.6,-19.81 ; 2.6,-18.29 2.6,-17.27 ; 2.6,-15.75 2.6,-14.73 ; 2.6,-13.21 2.6,-12.19 ; 2.6,-10.67 2.6,-9.65 ; 2.6,-8.13 2.6,-7.11 ; 2.6,-5.59 2.6,-4.57 ; 2.6,-3.05 2.6,-2.03 ; 2.6,-0.51 2.6,0.51 ; 2.6,2.03 2.6,3.05 ; 2.6,4.57 2.6,5.59 ; 2.6,7.11 2.6,8.13 ; 2.6,9.65 2.6,10.67 ; 2.6,12.19 2.6,13.21 ; 2.6,14.73 2.6,15.75 ; 2.6,17.27 2.6,18.29 ; 2.6,19.81 2.6,20.83 ; 2.6,22.35 2.6,23.37 ; 2.6,24.89 2.6,25.91 ; 2.6,27.43 2.6,28.45 ; 2.6,29.97 2.6,30.99 ; 2.6,32.51 2.6,33.53 ; 2.6,35.05 2.6,36.07 ; 2.6,37.59 2.6,38.61 ; 2.6,40.13 2.6,41.15 ; 2.6,42.67 2.6,43.69 ; 2.6,45.21 2.6,46.23
Top Assembly:
  drawing of 233 lines, arcs and shapes, not listed
  text "'.Designator'" at 0.84,-4.047 h1
Top Courtyard:
  lines w0.254: -4.55,-48.8 4.5,-48.8 4.5,48.8 -4.55,48.8 -4.55,-48.8
Top Designator:
  text ".Designator" at -7.643,-0.508 h1.52

## PinSocket_2x39_P2.54mm_Horizontal [mm]
pads (78):
  rect 1.7x1.7 hole 1: 1(0,0)
  round 1.7 hole 1: 2(-2.54,0) 3(0,-2.54) 4(-2.54,-2.54) 5(0,-5.08) 6(-2.54,-5.08) 7(0,-7.62) 8(-2.54,-7.62) 9(0,-10.16) 10(-2.54,-10.16) 11(0,-12.7) 12(-2.54,-12.7) 13(0,-15.24) 14(-2.54,-15.24) 15(0,-17.78) 16(-2.54,-17.78) 17(0,-20.32) 18(-2.54,-20.32) 19(0,-22.86) 20(-2.54,-22.86) 21(0,-25.4) 22(-2.54,-25.4) 23(0,-27.94) 24(-2.54,-27.94) 25(0,-30.48) 26(-2.54,-30.48) 27(0,-33.02) 28(-2.54,-33.02) 29(0,-35.56) 30(-2.54,-35.56) 31(0,-38.1) 32(-2.54,-38.1) 33(0,-40.64) 34(-2.54,-40.64) 35(0,-43.18) 36(-2.54,-43.18) 37(0,-45.72) 38(-2.54,-45.72) 39(0,-48.26) 40(-2.54,-48.26) 41(0,-50.8) 42(-2.54,-50.8) 43(0,-53.34) 44(-2.54,-53.34) 45(0,-55.88) 46(-2.54,-55.88) 47(0,-58.42) 48(-2.54,-58.42) 49(0,-60.96) 50(-2.54,-60.96) 51(0,-63.5) 52(-2.54,-63.5) 53(0,-66.04) 54(-2.54,-66.04) 55(0,-68.58) 56(-2.54,-68.58) 57(0,-71.12) 58(-2.54,-71.12) 59(0,-73.66) 60(-2.54,-73.66) 61(0,-76.2) 62(-2.54,-76.2) 63(0,-78.74) 64(-2.54,-78.74) 65(0,-81.28) 66(-2.54,-81.28) 67(0,-83.82) 68(-2.54,-83.82) 69(0,-86.36) 70(-2.54,-86.36) 71(0,-88.9) 72(-2.54,-88.9) 73(0,-91.44) 74(-2.54,-91.44) 75(0,-93.98) 76(-2.54,-93.98) 77(0,-96.52) 78(-2.54,-96.52)
F.SilkS:
  drawing of 221 lines, arcs and shapes, not listed
Top Assembly:
  lines w0.254: -4.06,-96.82 0,-96.82 0,-96.22 -4.06,-96.22 ; -4.06,-94.28 0,-94.28 0,-93.68 -4.06,-93.68 ; -4.06,-91.74 0,-91.74 0,-91.14 -4.06,-91.14 ; -4.06,-89.2 0,-89.2 0,-88.6 -4.06,-88.6 ; -4.06,-86.66 0,-86.66 0,-86.06 -4.06,-86.06 ; -4.06,-84.12 0,-84.12 0,-83.52 -4.06,-83.52 ; -4.06,-81.58 0,-81.58 0,-80.98 -4.06,-80.98 ; -4.06,-79.04 0,-79.04 0,-78.44 -4.06,-78.44 ; -4.06,-76.5 0,-76.5 0,-75.9 -4.06,-75.9 ; -4.06,-73.96 0,-73.96 0,-73.36 -4.06,-73.36 ; -4.06,-71.42 0,-71.42 0,-70.82 -4.06,-70.82 ; -4.06,-68.88 0,-68.88 0,-68.28 -4.06,-68.28 ; -4.06,-66.34 0,-66.34 0,-65.74 -4.06,-65.74 ; -4.06,-63.8 0,-63.8 0,-63.2 -4.06,-63.2 ; -4.06,-61.26 0,-61.26 0,-60.66 -4.06,-60.66 ; -4.06,-58.72 0,-58.72 0,-58.12 -4.06,-58.12 ; -4.06,-56.18 0,-56.18 0,-55.58 -4.06,-55.58 ; -4.06,-53.64 0,-53.64 0,-53.04 -4.06,-53.04 ; -4.06,-51.1 0,-51.1 0,-50.5 -4.06,-50.5 ; -4.06,-48.56 0,-48.56 0,-47.96 -4.06,-47.96 ; -4.06,-46.02 0,-46.02 0,-45.42 -4.06,-45.42 ; -4.06,-43.48 0,-43.48 0,-42.88 -4.06,-42.88 ; -4.06,-40.94 0,-40.94 0,-40.34 -4.06,-40.34 ; -4.06,-38.4 0,-38.4 0,-37.8 -4.06,-37.8 ; -4.06,-35.86 0,-35.86 0,-35.26 -4.06,-35.26 ; -4.06,-33.32 0,-33.32 0,-32.72 -4.06,-32.72 ; -4.06,-30.78 0,-30.78 0,-30.18 -4.06,-30.18 ; -4.06,-28.24 0,-28.24 0,-27.64 -4.06,-27.64 ; -4.06,-25.7 0,-25.7 0,-25.1 -4.06,-25.1 ; -4.06,-23.16 0,-23.16 0,-22.56 -4.06,-22.56 ; -4.06,-20.62 0,-20.62 0,-20.02 -4.06,-20.02 ; -4.06,-18.08 0,-18.08 0,-17.48 -4.06,-17.48 ; -4.06,-15.54 0,-15.54 0,-14.94 -4.06,-14.94 ; -4.06,-13 0,-13 0,-12.4 -4.06,-12.4 ; -4.06,-10.46 0,-10.46 0,-9.86 -4.06,-9.86 ; -4.06,-7.92 0,-7.92 0,-7.32 -4.06,-7.32 ; -4.06,-5.38 0,-5.38 0,-4.78 -4.06,-4.78 ; -4.06,-2.84 0,-2.84 0,-2.24 -4.06,-2.24 ; -4.06,-0.3 0,-0.3 0,0.3 -4.06,0.3 ; -4.06,0.3 -4.06,-97.79 -12.57,-97.79 -12.57,1.27 -5.03,1.27 -4.06,0.3
  text "'.Designator'" at -7.475,-52.307 h1
Top Courtyard:
  lines w0.254: -13.05,-98.35 1.8,-98.35 1.8,1.75 -13.05,1.75 -13.05,-98.35
Top Designator:
  text ".Designator" at -13.243,-48.808 h1.52

## PinSocket_2x39_P2.54mm_Vertical [mm]
pads (78):
  rect 1.7x1.7 hole 1: 1(0,0)
  round 1.7 hole 1: 2(-2.54,0) 3(0,-2.54) 4(-2.54,-2.54) 5(0,-5.08) 6(-2.54,-5.08) 7(0,-7.62) 8(-2.54,-7.62) 9(0,-10.16) 10(-2.54,-10.16) 11(0,-12.7) 12(-2.54,-12.7) 13(0,-15.24) 14(-2.54,-15.24) 15(0,-17.78) 16(-2.54,-17.78) 17(0,-20.32) 18(-2.54,-20.32) 19(0,-22.86) 20(-2.54,-22.86) 21(0,-25.4) 22(-2.54,-25.4) 23(0,-27.94) 24(-2.54,-27.94) 25(0,-30.48) 26(-2.54,-30.48) 27(0,-33.02) 28(-2.54,-33.02) 29(0,-35.56) 30(-2.54,-35.56) 31(0,-38.1) 32(-2.54,-38.1) 33(0,-40.64) 34(-2.54,-40.64) 35(0,-43.18) 36(-2.54,-43.18) 37(0,-45.72) 38(-2.54,-45.72) 39(0,-48.26) 40(-2.54,-48.26) 41(0,-50.8) 42(-2.54,-50.8) 43(0,-53.34) 44(-2.54,-53.34) 45(0,-55.88) 46(-2.54,-55.88) 47(0,-58.42) 48(-2.54,-58.42) 49(0,-60.96) 50(-2.54,-60.96) 51(0,-63.5) 52(-2.54,-63.5) 53(0,-66.04) 54(-2.54,-66.04) 55(0,-68.58) 56(-2.54,-68.58) 57(0,-71.12) 58(-2.54,-71.12) 59(0,-73.66) 60(-2.54,-73.66) 61(0,-76.2) 62(-2.54,-76.2) 63(0,-78.74) 64(-2.54,-78.74) 65(0,-81.28) 66(-2.54,-81.28) 67(0,-83.82) 68(-2.54,-83.82) 69(0,-86.36) 70(-2.54,-86.36) 71(0,-88.9) 72(-2.54,-88.9) 73(0,-91.44) 74(-2.54,-91.44) 75(0,-93.98) 76(-2.54,-93.98) 77(0,-96.52) 78(-2.54,-96.52)
F.SilkS:
  lines w0.254: 0,1.33 1.33,1.33 1.33,0 ; -3.87,-97.85 1.33,-97.85 1.33,-1.27 -1.27,-1.27 -1.27,1.33 -3.87,1.33 -3.87,-97.85
Top Assembly:
  lines w0.254: -3.81,-97.79 1.27,-97.79 1.27,0.27 0.27,1.27 -3.81,1.27 -3.81,-97.79
  text "'.Designator'" at -0.43,-52.307 h1
Top Courtyard:
  lines w0.254: -4.34,-98.3 1.76,-98.3 1.76,1.8 -4.34,1.8 -4.34,-98.3
Top Designator:
  text ".Designator" at -8.908,-48.758 h1.52

## PinSocket_2x39_P2.54mm_Vertical_SMD [mm]
pads (78):
  rect 3x1 smd: 1(2.52,48.26) 2(-2.52,48.26) 3(2.52,45.72) 4(-2.52,45.72) 5(2.52,43.18) 6(-2.52,43.18) 7(2.52,40.64) 8(-2.52,40.64) 9(2.52,38.1) 10(-2.52,38.1) 11(2.52,35.56) 12(-2.52,35.56) 13(2.52,33.02) 14(-2.52,33.02) 15(2.52,30.48) 16(-2.52,30.48) 17(2.52,27.94) 18(-2.52,27.94) 19(2.52,25.4) 20(-2.52,25.4) 21(2.52,22.86) 22(-2.52,22.86) 23(2.52,20.32) 24(-2.52,20.32) 25(2.52,17.78) 26(-2.52,17.78) 27(2.52,15.24) 28(-2.52,15.24) 29(2.52,12.7) 30(-2.52,12.7) 31(2.52,10.16) 32(-2.52,10.16) 33(2.52,7.62) 34(-2.52,7.62) 35(2.52,5.08) 36(-2.52,5.08) 37(2.52,2.54) 38(-2.52,2.54) 39(2.52,0) 40(-2.52,0) 41(2.52,-2.54) 42(-2.52,-2.54) 43(2.52,-5.08) 44(-2.52,-5.08) 45(2.52,-7.62) 46(-2.52,-7.62) 47(2.52,-10.16) 48(-2.52,-10.16) 49(2.52,-12.7) 50(-2.52,-12.7) 51(2.52,-15.24) 52(-2.52,-15.24) 53(2.52,-17.78) 54(-2.52,-17.78) 55(2.52,-20.32) 56(-2.52,-20.32) 57(2.52,-22.86) 58(-2.52,-22.86) 59(2.52,-25.4) 60(-2.52,-25.4) 61(2.52,-27.94) 62(-2.52,-27.94) 63(2.52,-30.48) 64(-2.52,-30.48) 65(2.52,-33.02) 66(-2.52,-33.02) 67(2.52,-35.56) 68(-2.52,-35.56) 69(2.52,-38.1) 70(-2.52,-38.1) 71(2.52,-40.64) 72(-2.52,-40.64) 73(2.52,-43.18) 74(-2.52,-43.18) 75(2.52,-45.72) 76(-2.52,-45.72) 77(2.52,-48.26) 78(-2.52,-48.26)
F.SilkS:
  lines w0.254: -2.6,-49.02 -2.6,-49.59 2.6,-49.59 2.6,-49.02 ; -2.6,-47.5 -2.6,-46.48 ; -2.6,-44.96 -2.6,-43.94 ; -2.6,-42.42 -2.6,-41.4 ; -2.6,-39.88 -2.6,-38.86 ; -2.6,-37.34 -2.6,-36.32 ; -2.6,-34.8 -2.6,-33.78 ; -2.6,-32.26 -2.6,-31.24 ; -2.6,-29.72 -2.6,-28.7 ; -2.6,-27.18 -2.6,-26.16 ; -2.6,-24.64 -2.6,-23.62 ; -2.6,-22.1 -2.6,-21.08 ; -2.6,-19.56 -2.6,-18.54 ; -2.6,-17.02 -2.6,-16 ; -2.6,-14.48 -2.6,-13.46 ; -2.6,-11.94 -2.6,-10.92 ; -2.6,-9.4 -2.6,-8.38 ; -2.6,-6.86 -2.6,-5.84 ; -2.6,-4.32 -2.6,-3.3 ; -2.6,-1.78 -2.6,-0.76 ; -2.6,0.76 -2.6,1.78 ; -2.6,3.3 -2.6,4.32 ; -2.6,5.84 -2.6,6.86 ; -2.6,8.38 -2.6,9.4 ; -2.6,10.92 -2.6,11.94 ; -2.6,13.46 -2.6,14.48 ; -2.6,16 -2.6,17.02 ; -2.6,18.54 -2.6,19.56 ; -2.6,21.08 -2.6,22.1 ; -2.6,23.62 -2.6,24.64 ; -2.6,26.16 -2.6,27.18 ; -2.6,28.7 -2.6,29.72 ; -2.6,31.24 -2.6,32.26 ; -2.6,33.78 -2.6,34.8 ; -2.6,36.32 -2.6,37.34 ; -2.6,38.86 -2.6,39.88 ; -2.6,41.4 -2.6,42.42 ; -2.6,43.94 -2.6,44.96 ; -2.6,46.48 -2.6,47.5 ; -2.6,49.02 -2.6,49.59 2.6,49.59 2.6,49.02 3.96,49.02 ; 2.6,-47.5 2.6,-46.48 ; 2.6,-44.96 2.6,-43.94 ; 2.6,-42.42 2.6,-41.4 ; 2.6,-39.88 2.6,-38.86 ; 2.6,-37.34 2.6,-36.32 ; 2.6,-34.8 2.6,-33.78 ; 2.6,-32.26 2.6,-31.24 ; 2.6,-29.72 2.6,-28.7 ; 2.6,-27.18 2.6,-26.16 ; 2.6,-24.64 2.6,-23.62 ; 2.6,-22.1 2.6,-21.08 ; 2.6,-19.56 2.6,-18.54 ; 2.6,-17.02 2.6,-16 ; 2.6,-14.48 2.6,-13.46 ; 2.6,-11.94 2.6,-10.92 ; 2.6,-9.4 2.6,-8.38 ; 2.6,-6.86 2.6,-5.84 ; 2.6,-4.32 2.6,-3.3 ; 2.6,-1.78 2.6,-0.76 ; 2.6,0.76 2.6,1.78 ; 2.6,3.3 2.6,4.32 ; 2.6,5.84 2.6,6.86 ; 2.6,8.38 2.6,9.4 ; 2.6,10.92 2.6,11.94 ; 2.6,13.46 2.6,14.48 ; 2.6,16 2.6,17.02 ; 2.6,18.54 2.6,19.56 ; 2.6,21.08 2.6,22.1 ; 2.6,23.62 2.6,24.64 ; 2.6,26.16 2.6,27.18 ; 2.6,28.7 2.6,29.72 ; 2.6,31.24 2.6,32.26 ; 2.6,33.78 2.6,34.8 ; 2.6,36.32 2.6,37.34 ; 2.6,38.86 2.6,39.88 ; 2.6,41.4 2.6,42.42 ; 2.6,43.94 2.6,44.96 ; 2.6,46.48 2.6,47.5
Top Assembly:
  drawing of 239 lines, arcs and shapes, not listed
  text "'.Designator'" at 0.84,-4.047 h1
Top Courtyard:
  lines w0.254: -4.55,-50.05 4.5,-50.05 4.5,50.05 -4.55,50.05 -4.55,-50.05
Top Designator:
  text ".Designator" at -7.643,-0.508 h1.52

## PinSocket_2x40_P2.54mm_Horizontal [mm]
pads (80):
  rect 1.7x1.7 hole 1: 1(0,0)
  round 1.7 hole 1: 2(-2.54,0) 3(0,-2.54) 4(-2.54,-2.54) 5(0,-5.08) 6(-2.54,-5.08) 7(0,-7.62) 8(-2.54,-7.62) 9(0,-10.16) 10(-2.54,-10.16) 11(0,-12.7) 12(-2.54,-12.7) 13(0,-15.24) 14(-2.54,-15.24) 15(0,-17.78) 16(-2.54,-17.78) 17(0,-20.32) 18(-2.54,-20.32) 19(0,-22.86) 20(-2.54,-22.86) 21(0,-25.4) 22(-2.54,-25.4) 23(0,-27.94) 24(-2.54,-27.94) 25(0,-30.48) 26(-2.54,-30.48) 27(0,-33.02) 28(-2.54,-33.02) 29(0,-35.56) 30(-2.54,-35.56) 31(0,-38.1) 32(-2.54,-38.1) 33(0,-40.64) 34(-2.54,-40.64) 35(0,-43.18) 36(-2.54,-43.18) 37(0,-45.72) 38(-2.54,-45.72) 39(0,-48.26) 40(-2.54,-48.26) 41(0,-50.8) 42(-2.54,-50.8) 43(0,-53.34) 44(-2.54,-53.34) 45(0,-55.88) 46(-2.54,-55.88) 47(0,-58.42) 48(-2.54,-58.42) 49(0,-60.96) 50(-2.54,-60.96) 51(0,-63.5) 52(-2.54,-63.5) 53(0,-66.04) 54(-2.54,-66.04) 55(0,-68.58) 56(-2.54,-68.58) 57(0,-71.12) 58(-2.54,-71.12) 59(0,-73.66) 60(-2.54,-73.66) 61(0,-76.2) 62(-2.54,-76.2) 63(0,-78.74) 64(-2.54,-78.74) 65(0,-81.28) 66(-2.54,-81.28) 67(0,-83.82) 68(-2.54,-83.82) 69(0,-86.36) 70(-2.54,-86.36) 71(0,-88.9) 72(-2.54,-88.9) 73(0,-91.44) 74(-2.54,-91.44) 75(0,-93.98) 76(-2.54,-93.98) 77(0,-96.52) 78(-2.54,-96.52) 79(0,-99.06) 80(-2.54,-99.06)
F.SilkS:
  drawing of 226 lines, arcs and shapes, not listed
Top Assembly:
  lines w0.254: -4.06,-99.36 0,-99.36 0,-98.76 -4.06,-98.76 ; -4.06,-96.82 0,-96.82 0,-96.22 -4.06,-96.22 ; -4.06,-94.28 0,-94.28 0,-93.68 -4.06,-93.68 ; -4.06,-91.74 0,-91.74 0,-91.14 -4.06,-91.14 ; -4.06,-89.2 0,-89.2 0,-88.6 -4.06,-88.6 ; -4.06,-86.66 0,-86.66 0,-86.06 -4.06,-86.06 ; -4.06,-84.12 0,-84.12 0,-83.52 -4.06,-83.52 ; -4.06,-81.58 0,-81.58 0,-80.98 -4.06,-80.98 ; -4.06,-79.04 0,-79.04 0,-78.44 -4.06,-78.44 ; -4.06,-76.5 0,-76.5 0,-75.9 -4.06,-75.9 ; -4.06,-73.96 0,-73.96 0,-73.36 -4.06,-73.36 ; -4.06,-71.42 0,-71.42 0,-70.82 -4.06,-70.82 ; -4.06,-68.88 0,-68.88 0,-68.28 -4.06,-68.28 ; -4.06,-66.34 0,-66.34 0,-65.74 -4.06,-65.74 ; -4.06,-63.8 0,-63.8 0,-63.2 -4.06,-63.2 ; -4.06,-61.26 0,-61.26 0,-60.66 -4.06,-60.66 ; -4.06,-58.72 0,-58.72 0,-58.12 -4.06,-58.12 ; -4.06,-56.18 0,-56.18 0,-55.58 -4.06,-55.58 ; -4.06,-53.64 0,-53.64 0,-53.04 -4.06,-53.04 ; -4.06,-51.1 0,-51.1 0,-50.5 -4.06,-50.5 ; -4.06,-48.56 0,-48.56 0,-47.96 -4.06,-47.96 ; -4.06,-46.02 0,-46.02 0,-45.42 -4.06,-45.42 ; -4.06,-43.48 0,-43.48 0,-42.88 -4.06,-42.88 ; -4.06,-40.94 0,-40.94 0,-40.34 -4.06,-40.34 ; -4.06,-38.4 0,-38.4 0,-37.8 -4.06,-37.8 ; -4.06,-35.86 0,-35.86 0,-35.26 -4.06,-35.26 ; -4.06,-33.32 0,-33.32 0,-32.72 -4.06,-32.72 ; -4.06,-30.78 0,-30.78 0,-30.18 -4.06,-30.18 ; -4.06,-28.24 0,-28.24 0,-27.64 -4.06,-27.64 ; -4.06,-25.7 0,-25.7 0,-25.1 -4.06,-25.1 ; -4.06,-23.16 0,-23.16 0,-22.56 -4.06,-22.56 ; -4.06,-20.62 0,-20.62 0,-20.02 -4.06,-20.02 ; -4.06,-18.08 0,-18.08 0,-17.48 -4.06,-17.48 ; -4.06,-15.54 0,-15.54 0,-14.94 -4.06,-14.94 ; -4.06,-13 0,-13 0,-12.4 -4.06,-12.4 ; -4.06,-10.46 0,-10.46 0,-9.86 -4.06,-9.86 ; -4.06,-7.92 0,-7.92 0,-7.32 -4.06,-7.32 ; -4.06,-5.38 0,-5.38 0,-4.78 -4.06,-4.78 ; -4.06,-2.84 0,-2.84 0,-2.24 -4.06,-2.24 ; -4.06,-0.3 0,-0.3 0,0.3 -4.06,0.3 ; -4.06,0.3 -4.06,-100.33 -12.57,-100.33 -12.57,1.27 -5.03,1.27 -4.06,0.3
  text "'.Designator'" at -7.475,-53.577 h1
Top Courtyard:
  lines w0.254: -13.05,-100.85 1.8,-100.85 1.8,1.75 -13.05,1.75 -13.05,-100.85
Top Designator:
  text ".Designator" at -13.243,-50.058 h1.52

## PinSocket_2x40_P2.54mm_Vertical [mm]
pads (80):
  rect 1.7x1.7 hole 1: 1(0,0)
  round 1.7 hole 1: 2(-2.54,0) 3(0,-2.54) 4(-2.54,-2.54) 5(0,-5.08) 6(-2.54,-5.08) 7(0,-7.62) 8(-2.54,-7.62) 9(0,-10.16) 10(-2.54,-10.16) 11(0,-12.7) 12(-2.54,-12.7) 13(0,-15.24) 14(-2.54,-15.24) 15(0,-17.78) 16(-2.54,-17.78) 17(0,-20.32) 18(-2.54,-20.32) 19(0,-22.86) 20(-2.54,-22.86) 21(0,-25.4) 22(-2.54,-25.4) 23(0,-27.94) 24(-2.54,-27.94) 25(0,-30.48) 26(-2.54,-30.48) 27(0,-33.02) 28(-2.54,-33.02) 29(0,-35.56) 30(-2.54,-35.56) 31(0,-38.1) 32(-2.54,-38.1) 33(0,-40.64) 34(-2.54,-40.64) 35(0,-43.18) 36(-2.54,-43.18) 37(0,-45.72) 38(-2.54,-45.72) 39(0,-48.26) 40(-2.54,-48.26) 41(0,-50.8) 42(-2.54,-50.8) 43(0,-53.34) 44(-2.54,-53.34) 45(0,-55.88) 46(-2.54,-55.88) 47(0,-58.42) 48(-2.54,-58.42) 49(0,-60.96) 50(-2.54,-60.96) 51(0,-63.5) 52(-2.54,-63.5) 53(0,-66.04) 54(-2.54,-66.04) 55(0,-68.58) 56(-2.54,-68.58) 57(0,-71.12) 58(-2.54,-71.12) 59(0,-73.66) 60(-2.54,-73.66) 61(0,-76.2) 62(-2.54,-76.2) 63(0,-78.74) 64(-2.54,-78.74) 65(0,-81.28) 66(-2.54,-81.28) 67(0,-83.82) 68(-2.54,-83.82) 69(0,-86.36) 70(-2.54,-86.36) 71(0,-88.9) 72(-2.54,-88.9) 73(0,-91.44) 74(-2.54,-91.44) 75(0,-93.98) 76(-2.54,-93.98) 77(0,-96.52) 78(-2.54,-96.52) 79(0,-99.06) 80(-2.54,-99.06)
F.SilkS:
  lines w0.254: 0,1.33 1.33,1.33 1.33,0 ; -3.87,-100.39 1.33,-100.39 1.33,-1.27 -1.27,-1.27 -1.27,1.33 -3.87,1.33 -3.87,-100.39
Top Assembly:
  lines w0.254: -3.81,-100.33 1.27,-100.33 1.27,0.27 0.27,1.27 -3.81,1.27 -3.81,-100.33
  text "'.Designator'" at -0.43,-53.577 h1
Top Courtyard:
  lines w0.254: -4.34,-100.8 1.76,-100.8 1.76,1.8 -4.34,1.8 -4.34,-100.8
Top Designator:
  text ".Designator" at -8.908,-50.008 h1.52

## PinSocket_2x40_P2.54mm_Vertical_SMD [mm]
pads (80):
  rect 3x1 smd: 1(2.52,49.53) 2(-2.52,49.53) 3(2.52,46.99) 4(-2.52,46.99) 5(2.52,44.45) 6(-2.52,44.45) 7(2.52,41.91) 8(-2.52,41.91) 9(2.52,39.37) 10(-2.52,39.37) 11(2.52,36.83) 12(-2.52,36.83) 13(2.52,34.29) 14(-2.52,34.29) 15(2.52,31.75) 16(-2.52,31.75) 17(2.52,29.21) 18(-2.52,29.21) 19(2.52,26.67) 20(-2.52,26.67) 21(2.52,24.13) 22(-2.52,24.13) 23(2.52,21.59) 24(-2.52,21.59) 25(2.52,19.05) 26(-2.52,19.05) 27(2.52,16.51) 28(-2.52,16.51) 29(2.52,13.97) 30(-2.52,13.97) 31(2.52,11.43) 32(-2.52,11.43) 33(2.52,8.89) 34(-2.52,8.89) 35(2.52,6.35) 36(-2.52,6.35) 37(2.52,3.81) 38(-2.52,3.81) 39(2.52,1.27) 40(-2.52,1.27) 41(2.52,-1.27) 42(-2.52,-1.27) 43(2.52,-3.81) 44(-2.52,-3.81) 45(2.52,-6.35) 46(-2.52,-6.35) 47(2.52,-8.89) 48(-2.52,-8.89) 49(2.52,-11.43) 50(-2.52,-11.43) 51(2.52,-13.97) 52(-2.52,-13.97) 53(2.52,-16.51) 54(-2.52,-16.51) 55(2.52,-19.05) 56(-2.52,-19.05) 57(2.52,-21.59) 58(-2.52,-21.59) 59(2.52,-24.13) 60(-2.52,-24.13) 61(2.52,-26.67) 62(-2.52,-26.67) 63(2.52,-29.21) 64(-2.52,-29.21) 65(2.52,-31.75) 66(-2.52,-31.75) 67(2.52,-34.29) 68(-2.52,-34.29) 69(2.52,-36.83) 70(-2.52,-36.83) 71(2.52,-39.37) 72(-2.52,-39.37) 73(2.52,-41.91) 74(-2.52,-41.91) 75(2.52,-44.45) 76(-2.52,-44.45) 77(2.52,-46.99) 78(-2.52,-46.99) 79(2.52,-49.53) 80(-2.52,-49.53)
F.SilkS:
  lines w0.254: -2.6,-50.29 -2.6,-50.86 2.6,-50.86 2.6,-50.29 ; -2.6,-48.77 -2.6,-47.75 ; -2.6,-46.23 -2.6,-45.21 ; -2.6,-43.69 -2.6,-42.67 ; -2.6,-41.15 -2.6,-40.13 ; -2.6,-38.61 -2.6,-37.59 ; -2.6,-36.07 -2.6,-35.05 ; -2.6,-33.53 -2.6,-32.51 ; -2.6,-30.99 -2.6,-29.97 ; -2.6,-28.45 -2.6,-27.43 ; -2.6,-25.91 -2.6,-24.89 ; -2.6,-23.37 -2.6,-22.35 ; -2.6,-20.83 -2.6,-19.81 ; -2.6,-18.29 -2.6,-17.27 ; -2.6,-15.75 -2.6,-14.73 ; -2.6,-13.21 -2.6,-12.19 ; -2.6,-10.67 -2.6,-9.65 ; -2.6,-8.13 -2.6,-7.11 ; -2.6,-5.59 -2.6,-4.57 ; -2.6,-3.05 -2.6,-2.03 ; -2.6,-0.51 -2.6,0.51 ; -2.6,2.03 -2.6,3.05 ; -2.6,4.57 -2.6,5.59 ; -2.6,7.11 -2.6,8.13 ; -2.6,9.65 -2.6,10.67 ; -2.6,12.19 -2.6,13.21 ; -2.6,14.73 -2.6,15.75 ; -2.6,17.27 -2.6,18.29 ; -2.6,19.81 -2.6,20.83 ; -2.6,22.35 -2.6,23.37 ; -2.6,24.89 -2.6,25.91 ; -2.6,27.43 -2.6,28.45 ; -2.6,29.97 -2.6,30.99 ; -2.6,32.51 -2.6,33.53 ; -2.6,35.05 -2.6,36.07 ; -2.6,37.59 -2.6,38.61 ; -2.6,40.13 -2.6,41.15 ; -2.6,42.67 -2.6,43.69 ; -2.6,45.21 -2.6,46.23 ; -2.6,47.75 -2.6,48.77 ; -2.6,50.29 -2.6,50.86 2.6,50.86 2.6,50.29 3.96,50.29 ; 2.6,-48.77 2.6,-47.75 ; 2.6,-46.23 2.6,-45.21 ; 2.6,-43.69 2.6,-42.67 ; 2.6,-41.15 2.6,-40.13 ; 2.6,-38.61 2.6,-37.59 ; 2.6,-36.07 2.6,-35.05 ; 2.6,-33.53 2.6,-32.51 ; 2.6,-30.99 2.6,-29.97 ; 2.6,-28.45 2.6,-27.43 ; 2.6,-25.91 2.6,-24.89 ; 2.6,-23.37 2.6,-22.35 ; 2.6,-20.83 2.6,-19.81 ; 2.6,-18.29 2.6,-17.27 ; 2.6,-15.75 2.6,-14.73 ; 2.6,-13.21 2.6,-12.19 ; 2.6,-10.67 2.6,-9.65 ; 2.6,-8.13 2.6,-7.11 ; 2.6,-5.59 2.6,-4.57 ; 2.6,-3.05 2.6,-2.03 ; 2.6,-0.51 2.6,0.51 ; 2.6,2.03 2.6,3.05 ; 2.6,4.57 2.6,5.59 ; 2.6,7.11 2.6,8.13 ; 2.6,9.65 2.6,10.67 ; 2.6,12.19 2.6,13.21 ; 2.6,14.73 2.6,15.75 ; 2.6,17.27 2.6,18.29 ; 2.6,19.81 2.6,20.83 ; 2.6,22.35 2.6,23.37 ; 2.6,24.89 2.6,25.91 ; 2.6,27.43 2.6,28.45 ; 2.6,29.97 2.6,30.99 ; 2.6,32.51 2.6,33.53 ; 2.6,35.05 2.6,36.07 ; 2.6,37.59 2.6,38.61 ; 2.6,40.13 2.6,41.15 ; 2.6,42.67 2.6,43.69 ; 2.6,45.21 2.6,46.23 ; 2.6,47.75 2.6,48.77
Top Assembly:
  drawing of 245 lines, arcs and shapes, not listed
  text "'.Designator'" at 0.84,-4.047 h1
Top Courtyard:
  lines w0.254: -4.55,-51.3 4.5,-51.3 4.5,51.3 -4.55,51.3 -4.55,-51.3
Top Designator:
  text ".Designator" at -7.643,-0.508 h1.52